# Altium footprint library PCB - LEADLESS - LFCSP - AD LFCSP-16 3X3 CP-16-22.PcbLib: 1 footprints
Each footprint in its own frame and in the unit in brackets; x right, y up, seen from the top. Pads: shape width x height; smd on the part's side, far side on the other; paste and mask are expansions set on the pad; w line width, h text height; cw(c..) or ccw(c..) is an arc to the next point about the centre after c.
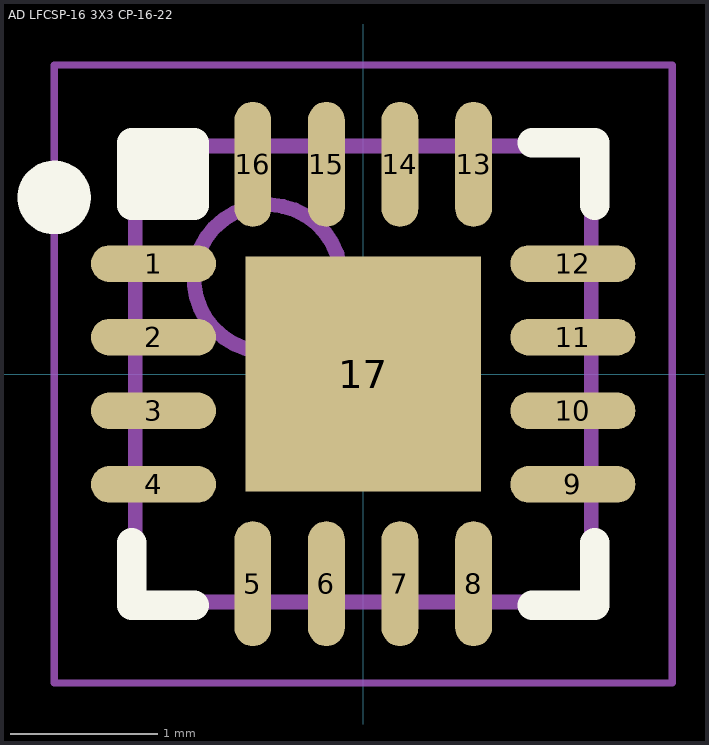
[diagram p0: the footprint, top view; thin cyan lines are the x and y axes]

## AD LFCSP-16 3X3 CP-16-22 [mm] "LFCSP, 16-Leads, Body 3.00x3.00mm, Pitch 0.50mm, Thermal Pad 1.60x1.60mm"
height 0.8
pads (17):
  oval 0.85x0.25 smd: 1(-1.425,0.75) 2(-1.425,0.25) 3(-1.425,-0.25) 4(-1.425,-0.75) 9(1.425,-0.75) 10(1.425,-0.25) 11(1.425,0.25) 12(1.425,0.75)
  oval 0.25x0.85 smd: 5(-0.75,-1.425) 6(-0.25,-1.425) 7(0.25,-1.425) 8(0.75,-1.425) 13(0.75,1.425) 14(0.25,1.425) 15(-0.25,1.425) 16(-0.75,1.425)
  rect 1.6x1.6 smd: 17(0,0)
Top Overlay:
  circle w0.25: c-2.1,1.2 r0.125
  rectangle: -1.573,1.148 -1.148,1.573
  lines w0.2: -1.573,-1.148 -1.573,-1.573 -1.148,-1.573 ; 1.148,-1.573 1.573,-1.573 1.573,-1.148 ; 1.148,1.573 1.573,1.573 1.573,1.148 ; -1.573,1.148 -1.148,1.148 -1.148,1.573 -1.573,1.573 -1.573,1.148
Mechanical 13:
  circle w0.1: c-0.65,0.65 r0.5
  lines w0.1: -1.55,-1.55 -1.55,1.55 1.55,1.55 1.55,-1.55 -1.55,-1.55
Mechanical 15:
  lines w0.05: -2.1,-2.1 -2.1,2.1 2.1,2.1 2.1,-2.1 -2.1,-2.1
  lines w0.1: -0.5,0 0.5,0 ; 0,-0.5 0,0.5
3D body "AD LFCSP-16 3X3 CP-16-22.step": height 0.8, standoff 0, extent -1.6,-1.6 1.6,1.6